# EAGLE library part MOSFET-DUAL-PCHANNEL (library pixhawk2)
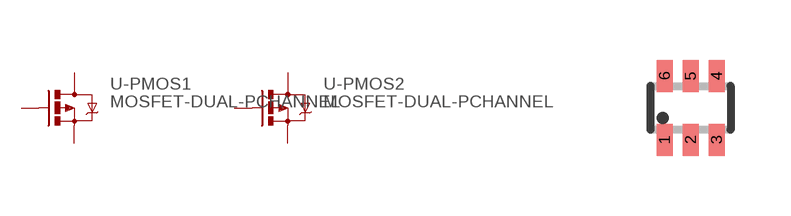
[diagram p60: symbol with the pads of SOT363_PHILIPS; footprint SOT363_PHILIPS]

Designator prefix -; gates -PMOS1=MOSFET-PCHANNEL -PMOS2=MOSFET-PCHANNEL

## MOSFET-DUAL-PCHANNEL-SOT363  [SOT363_PHILIPS]
1  -PMOS2:S  pas
2  -PMOS2:G  pas
3  -PMOS1:D  pas
4  -PMOS1:S  pas
5  -PMOS1:G  pas
6  -PMOS2:D  pas

## Footprint SOT363_PHILIPS (pad centres in mm)
Small Outline Transistor; 6 leads Philips Semiconductors, SOT363.pdf
smd 0.4 x 0.8: 1 -0.65,-0.8; 2 0,-0.8; 3 0.65,-0.8; 4 0.65,0.8; 5 0,0.8; 6 -0.65,0.8